# EAGLE library part LT1990 (library zz-upenn)
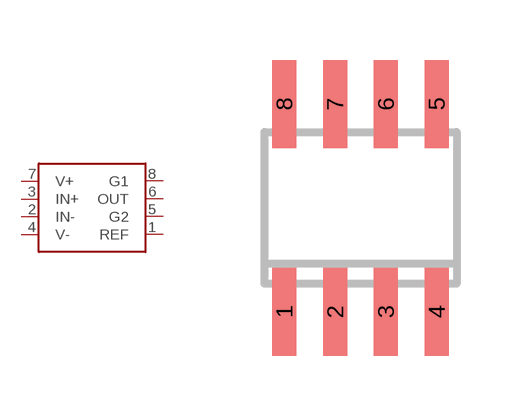
[diagram p34: symbol with the pads of SO-8; footprint SO-8]

Designator prefix -

## LT1990  [SO-8]
1  REF
2  IN-
3  IN+
4  V-
5  G2
6  OUT
7  V+
8  G1

## Footprint SO-8 (pad centres in mm)
smd 0.6 x 2.2: 1 -1.905,-2.6; 2 -0.635,-2.6; 3 0.635,-2.6; 4 1.905,-2.6; 5 1.905,2.6; 6 0.635,2.6; 7 -0.635,2.6; 8 -1.905,2.6